# EAGLE library part 1562Q (library tda1562Q)
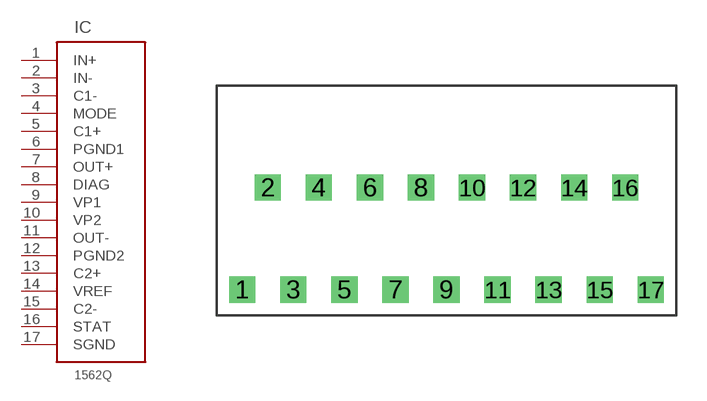
[diagram p0: symbol with the pads of SOT243-1; footprint SOT243-1]

Designator prefix IC

## 1562Q  [SOT243-1]
1  IN+
2  IN-
3  C1-
4  MODE
5  C1+
6  PGND1
7  OUT+
8  DIAG
9  VP1
10  VP2
11  OUT-
12  PGND2
13  C2+
14  VREF
15  C2-
16  STAT
17  SGND

## Footprint SOT243-1 (pad centres in mm)
drill 0.8 square: 1 -10.16,-2.54; 2 -8.89,2.54; 3 -7.62,-2.54; 4 -6.35,2.54; 5 -5.08,-2.54; 6 -3.81,2.54; 7 -2.54,-2.54; 8 -1.27,2.54; 9 0,-2.54; 10 1.27,2.54; 11 2.54,-2.54; 12 3.81,2.54; 13 5.08,-2.54; 14 6.35,2.54; 15 7.62,-2.54; 16 8.89,2.54; 17 10.16,-2.54